# Altium integrated library BC547.IntLib: 1 symbol
Pins are listed as number, name and electrical type; pins without a type are passive.

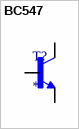
[diagram p0: symbol BC547]

## BC547
designator T?
Trans GP BJT NPN 45V 0.1A 500mW 3-Pin TO-92 T/R; MP: BC547; MF: ON Semiconductor; Package: None; Check_prices: https://www.snapeda.com/parts/BC547/Onsemi/view-part/?ref=eda; Value: *; SnapEDA_Link: https://www.snapeda.com/parts/BC547/Onsemi/view-part/?ref=snap; Availability: In Stock; Price: None; Purchase-URL: https://pricing.snapeda.com/search/part/BC547/?ref=eda
footprint TO92
pins: 1 E, 2 B, 3 C